# EAGLE library part AS-ITM-00034 (library tinycircuits)
CONN HEADER .050" SMD 6POS
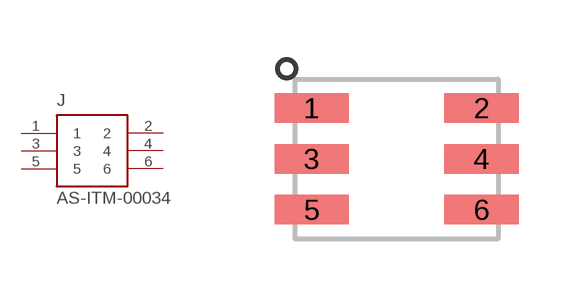
[diagram p11: symbol with the pads of 2X3_.05"_SMT_HEADER; footprint 2X3_.05"_SMT_HEADER]

Designator prefix J

## AS-ITM-00034 (PARTNO: AS-ITM-00034; VALUE: GRPB032VWQS)  [2X3_.05"_SMT_HEADER]
1  1
2  2
3  3
4  4
5  5
6  6

## Footprint 2X3_.05"_SMT_HEADER (pad centres in mm)
smd 1.854 x 0.737: 1 -2.125,1.27; 2 2.125,1.27; 3 -2.125,0; 4 2.125,0; 5 -2.125,-1.27; 6 2.125,-1.27